# EAGLE library part BMI-S-202 (library jobygnss)
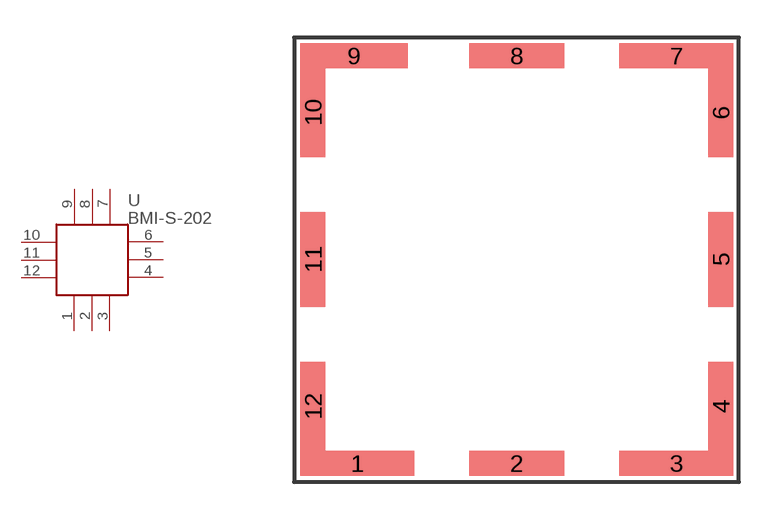
[diagram p8: symbol with the pads of BMI-S-202; footprint BMI-S-202]

Designator prefix -

## BMI-S-202  [BMI-S-202]
1  P$1  pwr
2  P$2  pwr
3  P$3  pwr
4  P$4  pwr
5  P$5  pwr
6  P$6  pwr
7  P$7  pwr
8  P$8  pwr
9  P$9  pwr
10  P$10  pwr
11  P$11  pwr
12  P$12  pwr

## Footprint BMI-S-202 (pad centres in mm)
smd 4.55 x 1: 1 2.275,0.5; 3 15.025,0.5; 7 15.025,16.8
smd 3.8 x 1: 2 8.65,0.5; 8 8.65,16.8
smd 1 x 3.55: 4 16.8,2.775; 6 16.8,14.525; 10 0.5,14.525; 12 0.5,2.775
smd 1 x 3.8: 5 16.8,8.65; 11 0.5,8.65
smd 4.296 x 1: 9 2.148,16.8